# Altium schematic symbol library Espressif.SchLib: 15 symbols
Pins are listed as number, name and electrical type; pins without a type are passive.

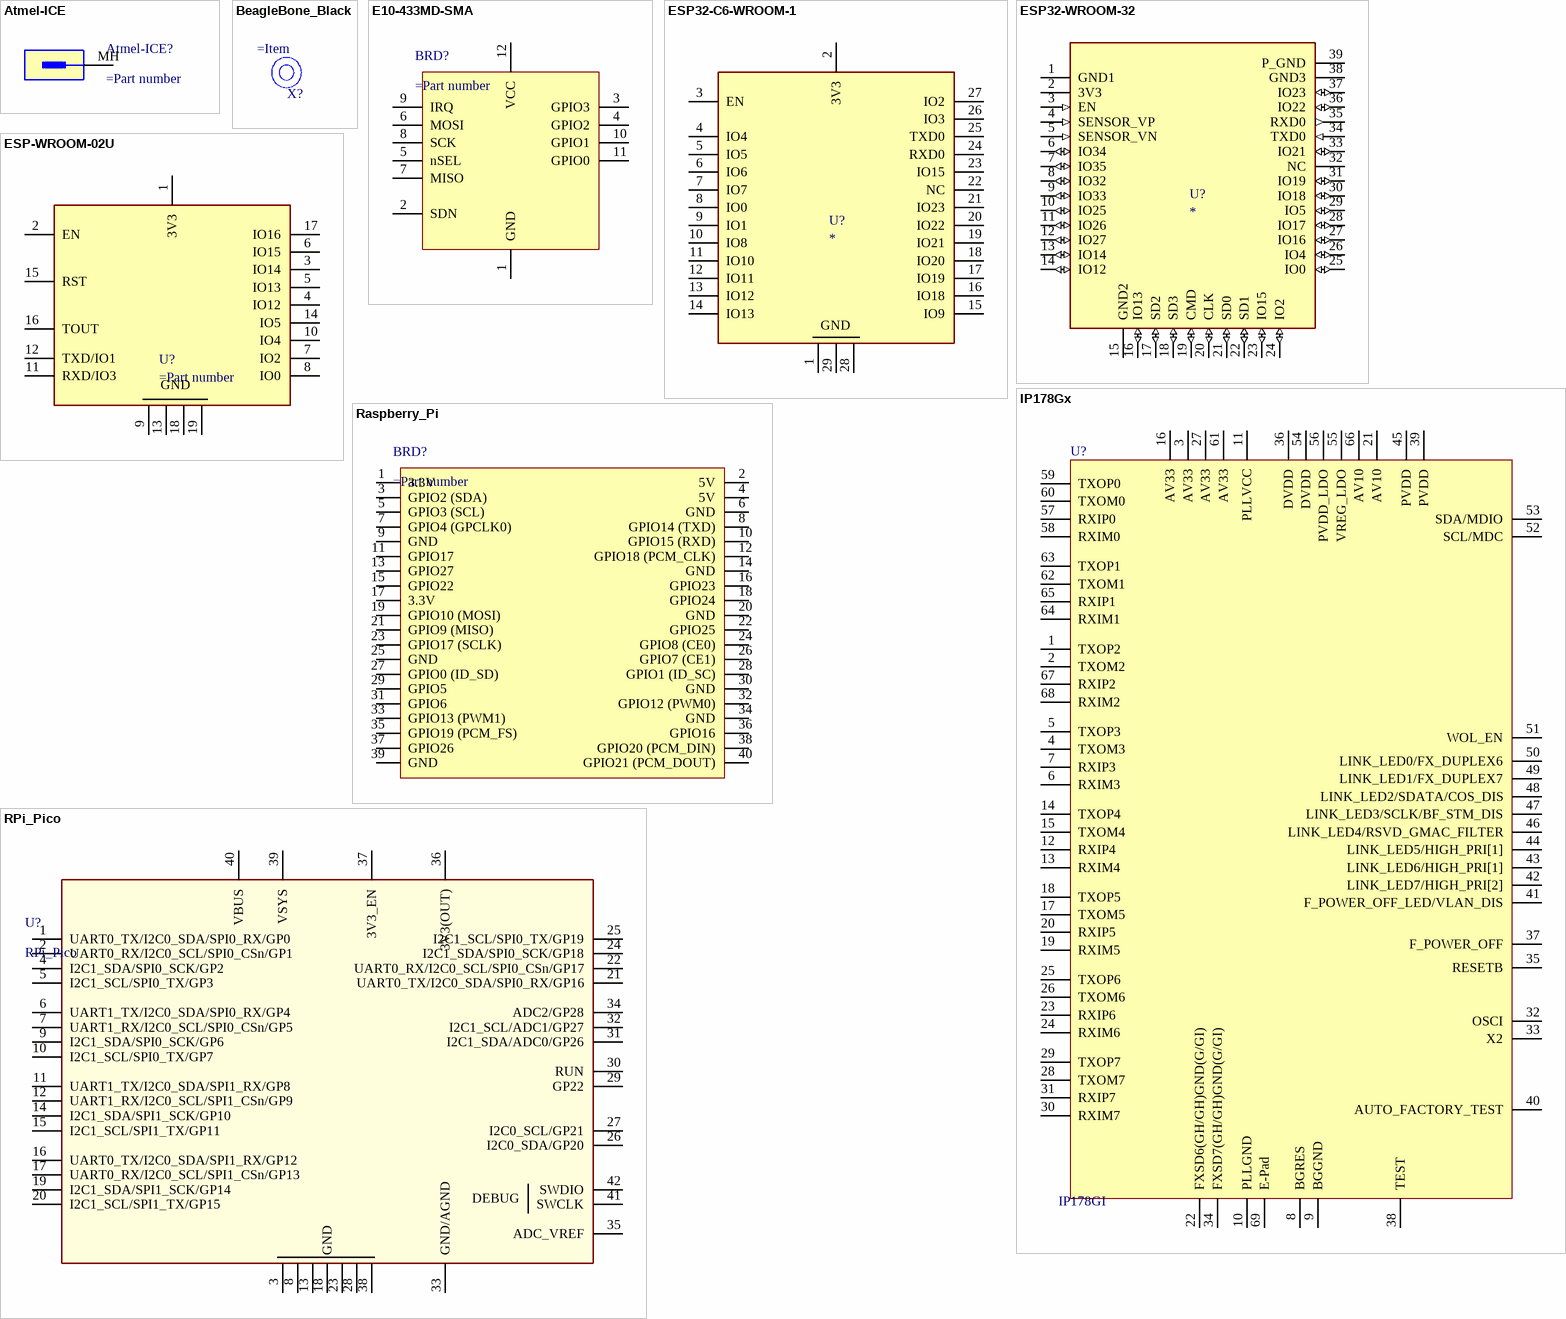
[diagram p0: symbols Atmel-ICE to RPi_Pico]

## Atmel-ICE
designator Atmel-ICE?
pins: MH

## BeagleBone_Black
designator X?

## E10-433MD-SMA
designator BRD?
pins: 1 GND, 2 SDN, 3 GPIO3, 4 GPIO2, 5 nSEL, 6 MOSI, 7 MISO, 8 SCK, 9 IRQ, 10 GPIO1, 11 GPIO0, 12 VCC

## ESP32-C6-WROOM-1
designator U?
pins: 1 GND, 2 3V3, 3 EN, 4 IO4, 5 IO5, 6 IO6, 7 IO7, 8 IO0, 9 IO1, 10 IO8, 11 IO10, 12 IO11, 13 IO12, 14 IO13, 15 IO9, 16 IO18, 17 IO19, 18 IO20, 19 IO21, 20 IO22, 21 IO23, 22 NC, 23 IO15, 24 RXD0, 25 TXD0, 26 IO3, 27 IO2, 28 GND, 29 GND

## ESP32-WROOM-32
designator U?
Voltage - Supply 2.7V ~ 3.6V / Frequency 2.4GHz ~ 2.5GHz / Sensitivity -98dBm / Serial Interfaces GPIO, I²C, I²S, PWM, SDIO, SPI, UART; Manufacturer: Espressif Systems; Parameter: Operating voltage/Power supply3.0 V ~ 3.6 V/perating current Average: 80 mA; ComponentLink1Description: HelpURL; ComponentLink1URL: https://www.espressif.com/sites/default/files/documentation/esp32-wroom-32_datasheet_en.pdf; Case: WROOM-32; Supplier 1: Mouser; Supplier Part Number 1: 356-ESP32WROOM-32D
footprint ESP32-WROOM-32
pins: 1 GND1 (power), 2 3V3 (power), 3 EN (in), 4 SENSOR_VP (in), 5 SENSOR_VN (in), 6 IO34 (io), 7 IO35 (io), 8 IO32 (io), 9 IO33 (io), 10 IO25 (io), 11 IO26 (io), 12 IO27 (io), 13 IO14 (io), 14 IO12 (io), 15 GND2 (power), 16 IO13 (io), 17 SD2 (io), 18 SD3 (io), 19 CMD (io), 20 CLK (io), 21 SD0 (io), 22 SD1 (io), 23 IO15 (io), 24 IO2 (io), 25 IO0 (io), 26 IO4 (io), 27 IO16 (io), 28 IO17 (io), 29 IO5 (io), 30 IO18 (io), 31 IO19 (io), 32 NC, 33 IO21 (io), 34 TXD0 (in), 35 RXD0 (out), 36 IO22 (io), 37 IO23 (io), 38 GND3 (power), 39 P_GND (power)

## ESP-WROOM-02U
designator U?
pins: 1 3V3, 2 EN, 3 IO14, 4 IO12, 5 IO13, 6 IO15, 7 IO2, 8 IO0, 9 GND, 10 IO4, 11 RXD/IO3, 12 TXD/IO1, 13 GND, 14 IO5, 15 RST, 16 TOUT, 17 IO16, 18 GND, 19 GND

## IP178Gx
designator U?, comment IP178GI
Manufacturer: ICPlus; Manufacturer Part Number: IP178GI
pins: 1 TXOP2, 2 TXOM2, 3 AV33, 4 TXOM3, 5 TXOP3, 6 RXIM3, 7 RXIP3, 8 BGRES, 9 BGGND, 10 PLLGND, 11 PLLVCC, 12 RXIP4, 13 RXIM4, 14 TXOP4, 15 TXOM4, 16 AV33, 17 TXOM5, 18 TXOP5, 19 RXIM5, 20 RXIP5, 21 AV10, 22 FXSD6(GH/GH)GND(G/GI), 23 RXIP6, 24 RXIM6, 25 TXOP6, 26 TXOM6, 27 AV33, 28 TXOM7, 29 TXOP7, 30 RXIM7, 31 RXIP7, 32 OSCI, 33 X2, 34 FXSD7(GH/GH)GND(G/GI), 35 RESETB, 36 DVDD, 37 F_POWER_OFF, 38 TEST, 39 PVDD, 40 AUTO_FACTORY_TEST, 41 F_POWER_OFF_LED/VLAN_DIS, 42 LINK_LED7/HIGH_PRI[2], 43 LINK_LED6/HIGH_PRI[1], 44 LINK_LED5/HIGH_PRI[1], 45 PVDD, 46 LINK_LED4/RSVD_GMAC_FILTER, 47 LINK_LED3/SCLK/BF_STM_DIS, 48 LINK_LED2/SDATA/COS_DIS, 49 LINK_LED1/FX_DUPLEX7, 50 LINK_LED0/FX_DUPLEX6, 51 WOL_EN, 52 SCL/MDC, 53 SDA/MDIO, 54 DVDD, 55 VREG_LDO, 56 PVDD_LDO, 57 RXIP0, 58 RXIM0, 59 TXOP0, 60 TXOM0, 61 AV33, 62 TXOM1, 63 TXOP1, 64 RXIM1, 65 RXIP1, 66 AV10, 67 RXIP2, 68 RXIM2, 69 E-Pad

## Raspberry_Pi
designator BRD?
pins: 1 3.3V, 2 5V, 3 GPIO2 (SDA), 4 5V, 5 GPIO3 (SCL), 6 GND, 7 GPIO4 (GPCLK0), 8 GPIO14 (TXD), 9 GND, 10 GPIO15 (RXD), 11 GPIO17, 12 GPIO18 (PCM_CLK), 13 GPIO27, 14 GND, 15 GPIO22, 16 GPIO23, 17 3.3V, 18 GPIO24, 19 GPIO10 (MOSI), 20 GND, 21 GPIO9 (MISO), 22 GPIO25, 23 GPIO17 (SCLK), 24 GPIO8 (CE0), 25 GND, 26 GPIO7 (CE1), 27 GPIO0 (ID_SD), 28 GPIO1 (ID_SC), 29 GPIO5, 30 GND, 31 GPIO6, 32 GPIO12 (PWM0), 33 GPIO13 (PWM1), 34 GND, 35 GPIO19 (PCM_FS), 36 GPIO16, 37 GPIO26, 38 GPIO20 (PCM_DIN), 39 GND, 40 GPIO21 (PCM_DOUT)

## RPi_Pico
designator U?
pins: 1 UART0_TX/I2C0_SDA/SPI0_RX/GP0, 2 UART0_RX/I2C0_SCL/SPI0_CSn/GP1, 3 GND, 4 I2C1_SDA/SPI0_SCK/GP2, 5 I2C1_SCL/SPI0_TX/GP3, 6 UART1_TX/I2C0_SDA/SPI0_RX/GP4, 7 UART1_RX/I2C0_SCL/SPI0_CSn/GP5, 8 GND, 9 I2C1_SDA/SPI0_SCK/GP6, 10 I2C1_SCL/SPI0_TX/GP7, 11 UART1_TX/I2C0_SDA/SPI1_RX/GP8, 12 UART1_RX/I2C0_SCL/SPI1_CSn/GP9, 13 GND, 14 I2C1_SDA/SPI1_SCK/GP10, 15 I2C1_SCL/SPI1_TX/GP11, 16 UART0_TX/I2C0_SDA/SPI1_RX/GP12, 17 UART0_RX/I2C0_SCL/SPI1_CSn/GP13, 18 GND, 19 I2C1_SDA/SPI1_SCK/GP14, 20 I2C1_SCL/SPI1_TX/GP15, 21 UART0_TX/I2C0_SDA/SPI0_RX/GP16, 22 UART0_RX/I2C0_SCL/SPI0_CSn/GP17, 23 GND, 24 I2C1_SDA/SPI0_SCK/GP18, 25 I2C1_SCL/SPI0_TX/GP19, 26 I2C0_SDA/GP20, 27 I2C0_SCL/GP21, 28 GND, 29 GP22, 30 RUN, 31 I2C1_SDA/ADC0/GP26, 32 I2C1_SCL/ADC1/GP27, 33 GND/AGND, 34 ADC2/GP28, 35 ADC_VREF, 36 3V3(OUT), 37 3V3_EN, 38 GND, 39 VSYS, 40 VBUS, 41 SWCLK, 42 SWDIO
text: DEBUG

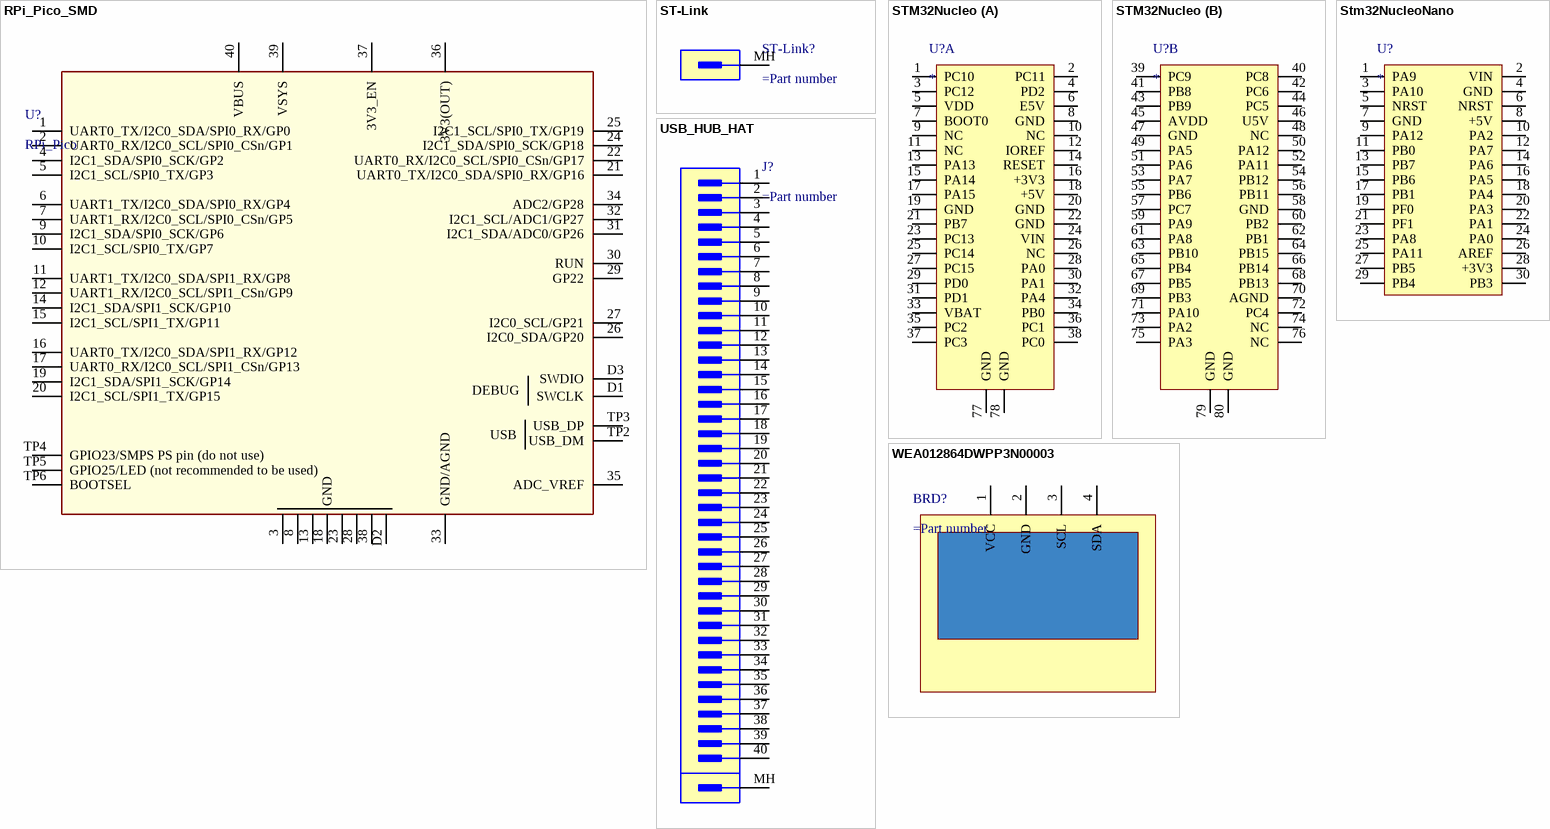
[diagram p1: symbols RPi_Pico_SMD to WEA012864DWPP3N00003]

## RPi_Pico_SMD
designator U?, comment RPi_Pico
pins: 1 UART0_TX/I2C0_SDA/SPI0_RX/GP0, 2 UART0_RX/I2C0_SCL/SPI0_CSn/GP1, 3 GND, 4 I2C1_SDA/SPI0_SCK/GP2, 5 I2C1_SCL/SPI0_TX/GP3, 6 UART1_TX/I2C0_SDA/SPI0_RX/GP4, 7 UART1_RX/I2C0_SCL/SPI0_CSn/GP5, 8 GND, 9 I2C1_SDA/SPI0_SCK/GP6, 10 I2C1_SCL/SPI0_TX/GP7, 11 UART1_TX/I2C0_SDA/SPI1_RX/GP8, 12 UART1_RX/I2C0_SCL/SPI1_CSn/GP9, 13 GND, 14 I2C1_SDA/SPI1_SCK/GP10, 15 I2C1_SCL/SPI1_TX/GP11, 16 UART0_TX/I2C0_SDA/SPI1_RX/GP12, 17 UART0_RX/I2C0_SCL/SPI1_CSn/GP13, 18 GND, 19 I2C1_SDA/SPI1_SCK/GP14, 20 I2C1_SCL/SPI1_TX/GP15, 21 UART0_TX/I2C0_SDA/SPI0_RX/GP16, 22 UART0_RX/I2C0_SCL/SPI0_CSn/GP17, 23 GND, 24 I2C1_SDA/SPI0_SCK/GP18, 25 I2C1_SCL/SPI0_TX/GP19, 26 I2C0_SDA/GP20, 27 I2C0_SCL/GP21, 28 GND, 29 GP22, 30 RUN, 31 I2C1_SDA/ADC0/GP26, 32 I2C1_SCL/ADC1/GP27, 33 GND/AGND, 34 ADC2/GP28, 35 ADC_VREF, 36 3V3(OUT), 37 3V3_EN, 38 GND, 39 VSYS, 40 VBUS, D1 SWCLK, D2 GND, D3 SWDIO, TP2 USB_DM, TP3 USB_DP, TP4 GPIO23/SMPS PS pin (do not use), TP5 GPIO25/LED (not recommended to be used), TP6 BOOTSEL
text: DEBUG; USB

## ST-Link
designator ST-Link?
pins: MH

## STM32Nucleo
designator U?
footprint Stm32Nucleo
part A pins: 1 PC10, 2 PC11, 3 PC12, 4 PD2, 5 VDD, 6 E5V, 7 BOOT0, 8 GND, 9 NC, 10 NC, 11 NC, 12 IOREF, 13 PA13, 14 RESET, 15 PA14, 16 +3V3, 17 PA15, 18 +5V, 19 GND, 20 GND, 21 PB7, 22 GND, 23 PC13, 24 VIN, 25 PC14, 26 NC, 27 PC15, 28 PA0, 29 PD0, 30 PA1, 31 PD1, 32 PA4, 33 VBAT, 34 PB0, 35 PC2, 36 PC1, 37 PC3, 38 PC0, 77 GND, 78 GND
part B pins: 39 PC9, 40 PC8, 41 PB8, 42 PC6, 43 PB9, 44 PC5, 45 AVDD, 46 U5V, 47 GND, 48 NC, 49 PA5, 50 PA12, 51 PA6, 52 PA11, 53 PA7, 54 PB12, 55 PB6, 56 PB11, 57 PC7, 58 GND, 59 PA9, 60 PB2, 61 PA8, 62 PB1, 63 PB10, 64 PB15, 65 PB4, 66 PB14, 67 PB5, 68 PB13, 69 PB3, 70 AGND, 71 PA10, 72 PC4, 73 PA2, 74 NC, 75 PA3, 76 NC, 79 GND, 80 GND

## Stm32NucleoNano
designator U?
footprint Stm32NucleoNano
pins: 1 PA9, 2 VIN, 3 PA10, 4 GND, 5 NRST, 6 NRST, 7 GND, 8 +5V, 9 PA12, 10 PA2, 11 PB0, 12 PA7, 13 PB7, 14 PA6, 15 PB6, 16 PA5, 17 PB1, 18 PA4, 19 PF0, 20 PA3, 21 PF1, 22 PA1, 23 PA8, 24 PA0, 25 PA11, 26 AREF, 27 PB5, 28 +3V3, 29 PB4, 30 PB3

## USB_HUB_HAT
designator J?
pins: 1, 2, 3, 4, 5, 6, 7, 8, 9, 10, 11, 12, 13, 14, 15, 16, 17, 18, 19, 20, 21, 22, 23, 24, 25, 26, 27, 28, 29, 30, 31, 32, 33, 34, 35, 36, 37, 38, 39, 40, MH

## WEA012864DWPP3N00003
designator BRD?
pins: 1 VCC, 2 GND, 3 SCL, 4 SDA